# EAGLE library part TSM-110-01-T-DV-P-TR (library TSM11001TDVPTR)
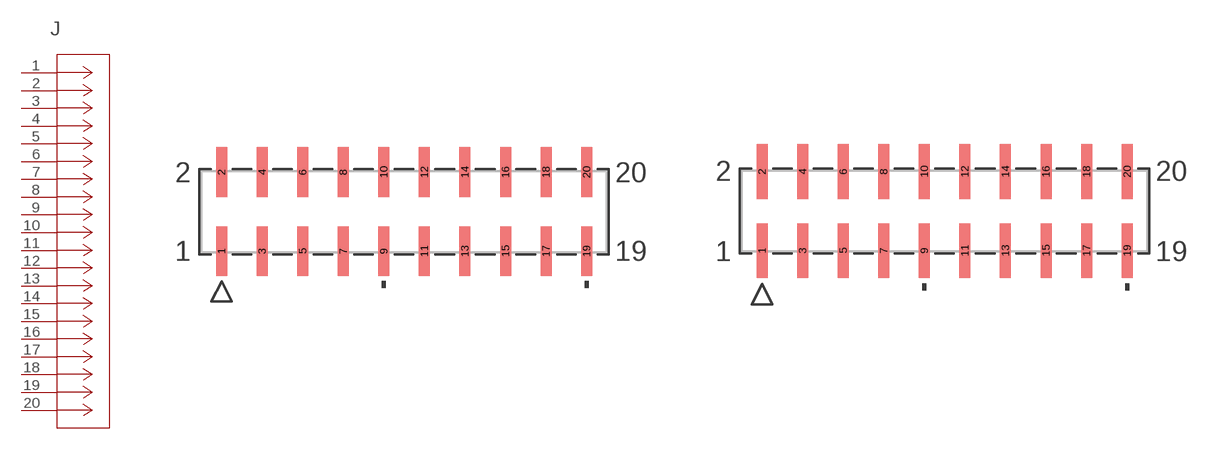
[diagram p0: symbol with the pads of CONN_TSM-110-01-T-DV_SAI; footprints CONN_TSM-110-01-T-DV_SAI, CONN_TSM-110-01-T-DV_SAI-M]

Designator prefix J

## TSM-110-01-T-DV-P-TR (BUILT_BY: EMA_Cory; COPYRIGHT: Copyright (C) 2018 Accelerated Designs. All rights reserved; DATASHEET: http://suddendocs.samtec.com/catalog_english/tsm.pdf; MANUFACTURER_PART_NUMBER: TSM-110-01-T-DV-P-TR; SOURCELIBRARY: Samtec_2020-02-19; VENDOR: Samtec Inc)  [CONN_TSM-110-01-T-DV_SAI]
1  1  pas
2  2  pas
3  3  pas
4  4  pas
5  5  pas
6  6  pas
7  7  pas
8  8  pas
9  9  pas
10  10  pas
11  11  pas
12  12  pas
13  13  pas
14  14  pas
15  15  pas
16  16  pas
17  17  pas
18  18  pas
19  19  pas
20  20  pas

## TSM-110-01-T-DV-P-TRCONN_TSM-110-01-T-DV_SAI-M (BUILT_BY: EMA_Cory; COPYRIGHT: Copyright (C) 2018 Accelerated Designs. All rights reserved; DATASHEET: http://suddendocs.samtec.com/catalog_english/tsm.pdf; MANUFACTURER_PART_NUMBER: TSM-110-01-T-DV-P-TR; SOURCELIBRARY: Samtec_2020-02-19; VENDOR: Samtec Inc)  [CONN_TSM-110-01-T-DV_SAI-M]
Pads as for CONN_TSM-110-01-T-DV_SAI

## TSM-110-01-T-DV-P-TRCONN_TSM-110-01-T-DV_SAI-L (BUILT_BY: EMA_Cory; COPYRIGHT: Copyright (C) 2018 Accelerated Designs. All rights reserved; DATASHEET: http://suddendocs.samtec.com/catalog_english/tsm.pdf; MANUFACTURER_PART_NUMBER: TSM-110-01-T-DV-P-TR; SOURCELIBRARY: Samtec_2020-02-19; VENDOR: Samtec Inc)  [CONN_TSM-110-01-T-DV_SAI-L]
Pads as for CONN_TSM-110-01-T-DV_SAI

## Footprint CONN_TSM-110-01-T-DV_SAI (pad centres in mm)
smd 0.686 x 3.124: 1 -11.43,-2.477; 2 -11.43,2.477; 3 -8.89,-2.477; 4 -8.89,2.477; 5 -6.35,-2.477; 6 -6.35,2.477; 7 -3.81,-2.477; 8 -3.81,2.477; 9 -1.27,-2.477; 10 -1.27,2.477; 11 1.27,-2.477; 12 1.27,2.477; 13 3.81,-2.477; 14 3.81,2.477; 15 6.35,-2.477; 16 6.35,2.477; 17 8.89,-2.477; 18 8.89,2.477; 19 11.43,-2.477; 20 11.43,2.477

## Footprint CONN_TSM-110-01-T-DV_SAI-M (pad centres in mm)
smd 0.686 x 3.429: 1 -11.43,-2.477; 2 -11.43,2.477; 3 -8.89,-2.477; 4 -8.89,2.477; 5 -6.35,-2.477; 6 -6.35,2.477; 7 -3.81,-2.477; 8 -3.81,2.477; 9 -1.27,-2.477; 10 -1.27,2.477; 11 1.27,-2.477; 12 1.27,2.477; 13 3.81,-2.477; 14 3.81,2.477; 15 6.35,-2.477; 16 6.35,2.477; 17 8.89,-2.477; 18 8.89,2.477; 19 11.43,-2.477; 20 11.43,2.477

## Footprint CONN_TSM-110-01-T-DV_SAI-L (pad centres in mm)
smd 0.635 x 2.819: 1 -11.43,-2.477; 2 -11.43,2.477; 3 -8.89,-2.477; 4 -8.89,2.477; 5 -6.35,-2.477; 6 -6.35,2.477; 7 -3.81,-2.477; 8 -3.81,2.477; 9 -1.27,-2.477; 10 -1.27,2.477; 11 1.27,-2.477; 12 1.27,2.477; 13 3.81,-2.477; 14 3.81,2.477; 15 6.35,-2.477; 16 6.35,2.477; 17 8.89,-2.477; 18 8.89,2.477; 19 11.43,-2.477; 20 11.43,2.477